# EAGLE library part SSD1306_128X64_LCD_MIN (library open_hw_sockets)
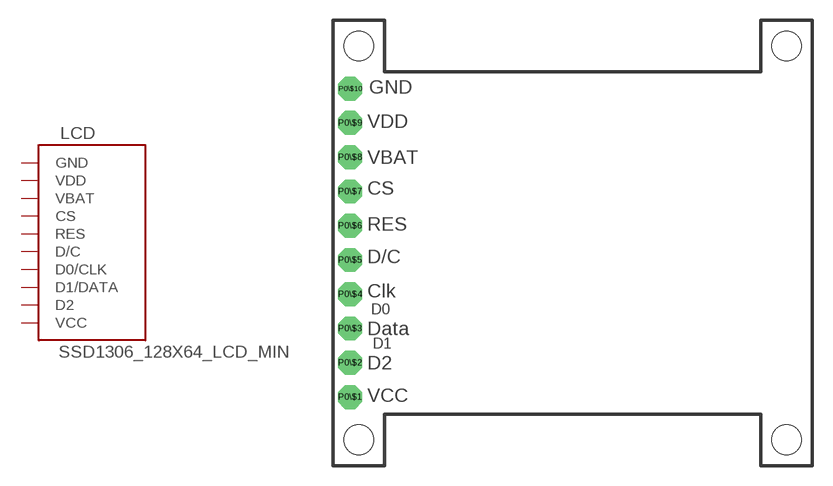
[diagram p5: symbol with the pads of SSD1306_128X64_LCD_MIN; footprint SSD1306_128X64_LCD_MIN]

Designator prefix LCD

## SSD1306_128X64_LCD_MIN  [SSD1306_128X64_LCD_MIN]
P0\$1  VCC  pwr
P0\$2  D2
P0\$3  D1/DATA
P0\$4  D0/CLK
P0\$5  D/C  in
P0\$6  RES  in
P0\$7  CS  in
P0\$8  VBAT  pwr
P0\$9  VDD  pwr
P0\$10  GND  pwr

## Footprint SSD1306_128X64_LCD_MIN (pad centres in mm)
drill 1.016 pad 1.778 octagon: P0\$1 1.27,1.27; P0\$2 1.27,3.81; P0\$3 1.27,6.35; P0\$4 1.27,8.89; P0\$5 1.27,11.43; P0\$6 1.27,13.97; P0\$7 1.27,16.51; P0\$8 1.27,19.05; P0\$9 1.27,21.59; P0\$10 1.27,24.13
hole 2.2 at 33.655,-1.905
hole 2.2 at 1.905,-1.905
hole 2.2 at 33.655,27.305
hole 2.2 at 1.905,27.305